# EAGLE library part RS232-TO-CAN-CONVERTER (library rs232-to-can)
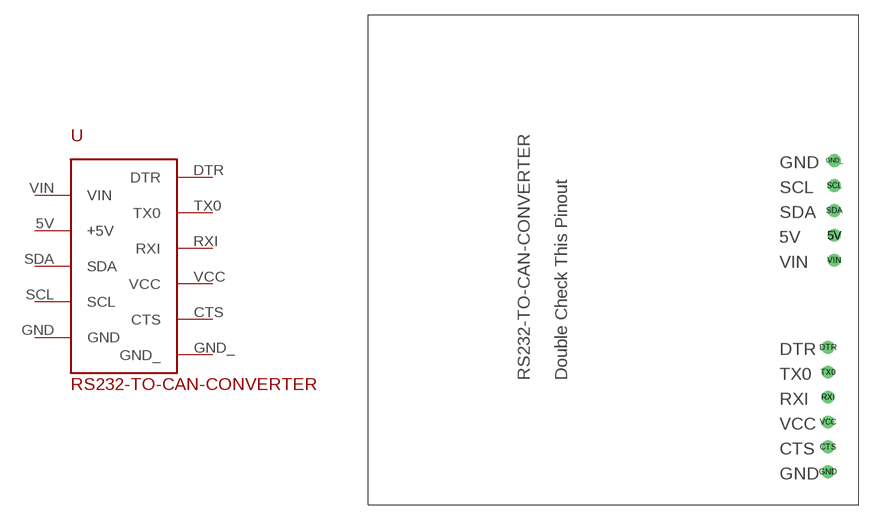
[diagram p0: symbol with the pads of RS232-TO-CAN-CONVERTER; footprint RS232-TO-CAN-CONVERTER]

Designator prefix -

## RS232-TO-CAN-CONVERTER  [RS232-TO-CAN-CONVERTER]
5V  +5V
CTS  CTS
DTR  DTR
GND  GND
GND_  GND_
RXI  RXI
SCL  SCL
SDA  SDA
TX0  TX0
VCC  VCC
VIN  VIN

## Footprint RS232-TO-CAN-CONVERTER (pad centres in mm)
drill 0.8: 5V 47.498,27.495; CTS 46.863,5.905; DTR 46.863,16.066; GND 46.863,3.365; GND_ 47.498,35.115; RXI 46.863,10.986; SCL 47.498,32.575; SDA 47.498,30.035; TX0 46.863,13.525; VCC 46.863,8.445; VIN 47.498,24.956